# EAGLE library part OPENCM (library RobotCampus)
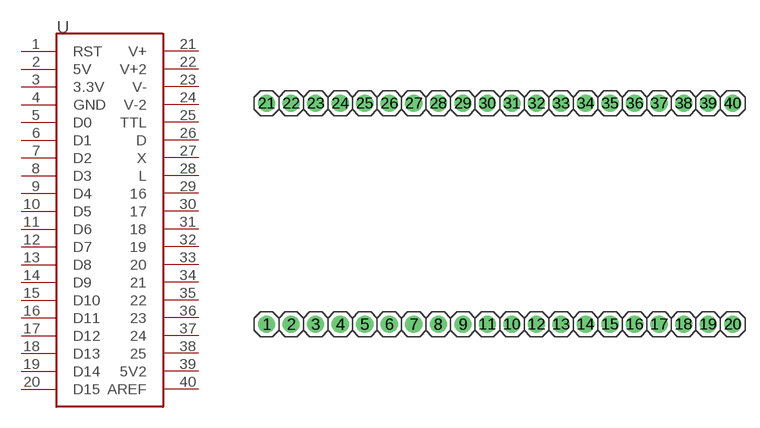
[diagram p6: symbol with the pads of OPENCM; footprint OPENCM]

Designator prefix -

## OPENCM  [OPENCM]
1  RST
2  5V
3  3.3V
4  GND
5  D0
6  D1
7  D2
8  D3
9  D4
10  D5
11  D6
12  D7
13  D8
14  D9
15  D10
16  D11
17  D12
18  D13
19  D14
20  D15
21  V+
22  V+2
23  V-
24  V-2
25  TTL
26  D
27  X
28  L
29  16
30  17
31  18
32  19
33  20
34  21
35  22
36  23
37  24
38  25
39  5V2
40  AREF

## Footprint OPENCM (pad centres in mm)
drill 1 pad 1.778: 1 -25.4,-5.08; 2 -22.86,-5.08; 3 -20.32,-5.08; 4 -17.78,-5.08; 5 -15.24,-5.08; 6 -12.7,-5.08; 7 -10.16,-5.08; 8 -7.62,-5.08; 9 -5.08,-5.08; 10 0,-5.08; 11 -2.54,-5.08; 12 2.54,-5.08; 13 5.08,-5.08; 14 7.62,-5.08; 15 10.16,-5.08; 16 12.7,-5.08; 17 15.24,-5.08; 18 17.78,-5.08; 19 20.32,-5.08; 20 22.86,-5.08; 21 -25.4,17.78; 22 -22.86,17.78; 23 -20.32,17.78; 24 -17.78,17.78; 25 -15.24,17.78; 26 -12.7,17.78; 27 -10.16,17.78; 28 -7.62,17.78; 29 -5.08,17.78; 30 -2.54,17.78; 31 0,17.78; 32 2.54,17.78; 33 5.08,17.78; 34 7.62,17.78; 35 10.16,17.78; 36 12.7,17.78; 37 15.24,17.78; 38 17.78,17.78; 39 20.32,17.78; 40 22.86,17.78